# Altium schematic symbol library TP30.Schlib: 1 symbol
Pins are listed as number, name and electrical type; pins without a type are passive.

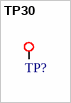
[diagram p0: symbol TP30]

## TP30
designator TP?, comment TESTPOINT  (value not drawn)  (no BOM)
0.030" Round Test Point
pins: 1